# Altium schematic symbol library ic-power-module.SchLib: 8 symbols
Pins are listed as number, name and electrical type; pins without a type are passive.

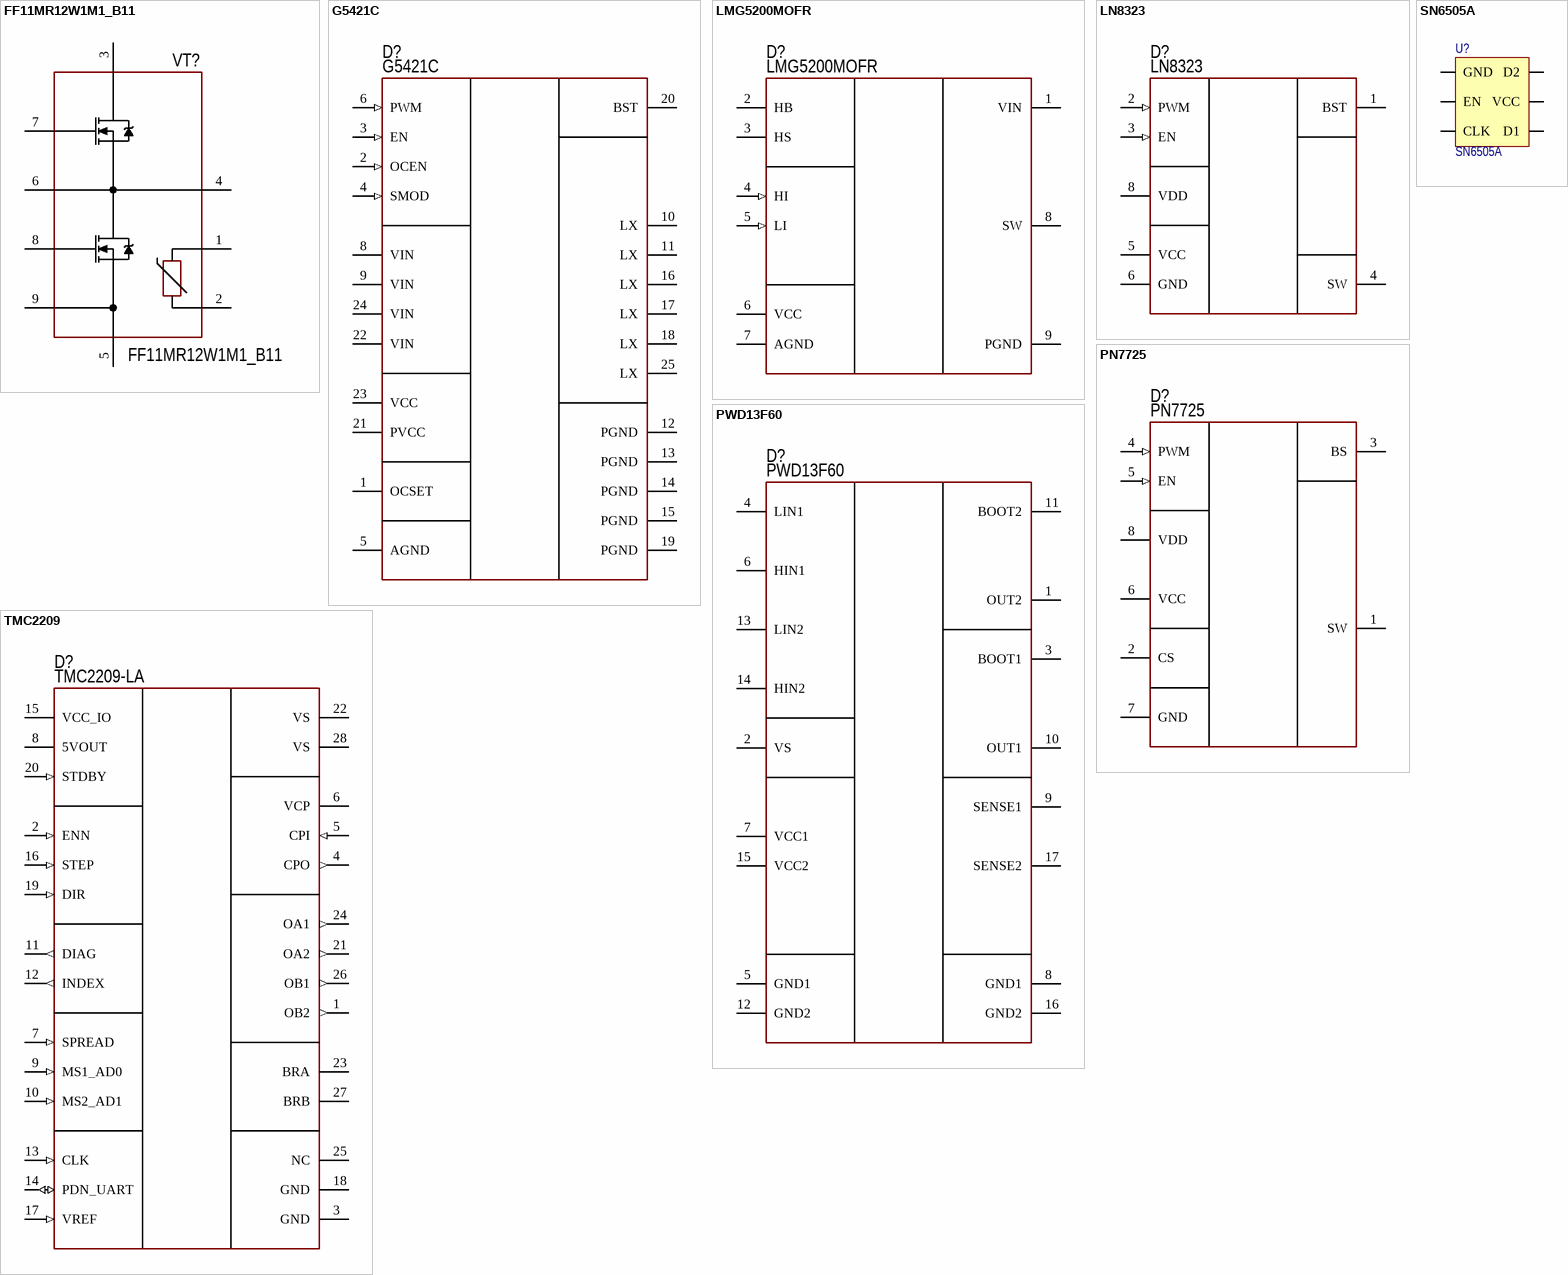
[diagram p0: symbols FF11MR12W1M1_B11 to TMC2209]

## FF11MR12W1M1_B11
designator VT?  PartNumber: FF11MR12W1M1_B11
Manufacturer: Infineon Technologies; ValueManufacturerPartNumber: Dual SiC module, 1200V, 100A, 238nC, 682W, 11 mOhms, Easy B1, -55...+125°C; TypeTransistor: Dual SiC module; VoltageDS: 1200V; CurrentDS: 100A; RDS: 11 mOhms; GateCharge: 238nC; MaxPower: 682W; Package: Easy B1; HelpURL: https://ru.mouser.com/ProductDetail/Infineon-Technologies/FF11MR12W1M1B11BOMA1?qs=sGAEpiMZZMve4%2FbfQkoj%252BMs%252BHhAJ5BiNWWSXLBNhDy8%3D; Temperature: -55...+125°C
footprint MOD: FF11MR12W1M1_B11
pins: 1 G, 1 G, 1, 2 D, 2 D, 2, 3 S, 3 S, 3, 4, 5, 6, 7, 8, 9

## G5421C
designator D?  PartNumber: G5421C
Mosfet module; Manufacturer: GMT; ValueManufacturerPartNumber: Half-bridge module, 30V, 1MHz, 6A, supply 4.5...5.5V, -40...+125°C, QFN-4x4; VoltageSupply: supply 4.5...5.5V; Frequency: 1MHz; CurrentOutput: 6A; VoltageWork: 30V; HelpURL: https://lcsc.com/product-detail/PMIC-Current-Power-Monitors-Regulators_GMT-Global-Mixed-mode-Tech-G5421CQT1U_C528085.html; Package: QFN-4x4; ComponentType: Half-bridge module; Temperature: -40...+125°C
footprint IC: G5421C
pins: 1 OCSET, 2 OCEN (in), 3 EN (in), 4 SMOD (in), 5 AGND, 6 PWM (in), 8 VIN, 9 VIN, 10 LX, 11 LX, 12 PGND, 13 PGND, 14 PGND, 15 PGND, 16 LX, 17 LX, 18 LX, 19 PGND, 20 BST, 21 PVCC, 22 VIN, 23 VCC, 24 VIN, 25 LX

## LMG5200MOFR
designator D?  PartNumber: LMG5200MOFR
Module GaN; Manufacturer: Texas Instruments; ValueManufacturerPartNumber: GaN power module, 80V, 4MHz, 10A, supply 4.75...5.25V, -40...+125°C, 9-QFN; VoltageSupply: supply 4.75...5.25V; Frequency: 4MHz; CurrentOutput: 10A; VoltageWork: 80V; HelpURL: https://www.digikey.com/product-detail/en/texas-instruments/LMG5200MOFR/296-46617-1-ND/7203901; Package: 9-QFN; ComponentType: GaN power module; Temperature: -40...+125°C
footprint IC: LMG5200
pins: 1 VIN, 2 HB, 3 HS, 4 HI (in), 5 LI (in), 6 VCC, 7 AGND, 8 SW, 9 PGND

## LN8323
designator D?  PartNumber: LN8323
Gate driver; Manufacturer: Chipown; ValueManufacturerPartNumber: Half-bridge module, 2N channel, 100kHz, 6A, supply 4...30V, -40...+125°C, 8-SOIC-PAD; VoltageSupply: supply 4...30V; Frequency: 100kHz; CurrentOutput: 6A; VoltageWork: 2N channel; HelpURL: http://chipown.com/product.asp?id=416; Package: 8-SOIC-PAD; ComponentType: Half-bridge module; Temperature: -40...+125°C
footprint 8-SOIC-PAD (pitch 1.27 mm, power pad)
pins: 1 BST, 2 PWM (in), 3 EN (in), 4 SW, 5 VCC, 6 GND, 8 VDD

## PN7725
designator D?  PartNumber: PN7725
Gate driver; Manufacturer: Chipown; ValueManufacturerPartNumber: Half-bridge module, 2N channel, 200kHz, 15W, supply 4...20V, -40...+125°C, 8-SOIC-PAD; VoltageSupply: supply 4...20V; Frequency: 200kHz; CurrentOutput: 15W; VoltageWork: 2N channel; HelpURL: http://chipown.com/product.asp?id=416; Package: 8-SOIC-PAD; ComponentType: Half-bridge module; Temperature: -40...+125°C
footprint 8-SOIC-PAD (pitch 1.27 mm, power pad)
pins: 1 SW, 2 CS, 3 BS, 4 PWM (in), 5 EN (in), 6 VCC, 7 GND, 8 VDD

## PWD13F60
designator D?  PartNumber: PWD13F60
Module MOSFET; Manufacturer: STMicroelectronics; ValueManufacturerPartNumber: MOSFET power module, 600V, 1MHz, 8A, supply 6.5...15V, -40...+125°C, 28-PowerVQFN; VoltageSupply: supply 6.5...15V; Frequency: 1MHz; CurrentOutput: 8A; VoltageWork: 600V; HelpURL: https://www.digikey.com/product-detail/en/stmicroelectronics/PWD13F60/497-18514-ND/8257611; Package: 28-PowerVQFN; ComponentType: MOSFET power module; Temperature: -40...+125°C
footprint IC: PWD13F60
pins: 1 OUT2 (power), 2 VS (power), 3 BOOT1 (power), 4 LIN1 (power), 5 GND1 (power), 6 HIN1 (power), 7 VCC1 (power), 8 GND1 (power), 9 SENSE1 (power), 10 OUT1 (power), 11 BOOT2 (power), 12 GND2 (power), 13 LIN2 (power), 14 HIN2 (power), 15 VCC2 (power), 16 GND2 (power), 17 SENSE2 (power)

## SN6505A
designator U?
Low-Noise 1-A Transformer Drivers for Isolated Power Supplies; ComponentLink1Description: Datasheet; ComponentLink1URL: https://www.ti.com/lit/ds/symlink/sn6505a.pdf?ts=1606984863638&ref_url=https%253A%252F%252Fwww.google.com%252F
footprint SOT23-6 (pitch 0.95 mm)
pins: 1 D1, 2 VCC, 3 D2, 4 GND, 5 EN, 6 CLK

## TMC2209
designator D?  PartNumber: TMC2209-LA
Stepper motor driver; Manufacturer: TRINAMIC; VoltageSupply: supply -0.5..5.5V; CurrentOutput: 2.8A; Voltage Range: 4.75… 29V DC; HelpURL: https://www.trinamic.com/products/integrated-circuits/details/tmc2209-la/; Package: 28-QFN; ComponentType: Stepper motor driver; ValueManufacturerPartNumber: =ComponentType+', '+VoltageWork+', '+Frequency+', '+CurrentOutput+', '+CMTI+', '+VoltageSupply+', '+Temperature+', '+Package; Temperature: -50...+150°C
footprint 28-QFN (5x5) (5x5 mm, pitch 0.5 mm, power pad)
pins: 1 OB2 (out), 2 ENN (in), 3 GND, 4 CPO (out), 5 CPI (in), 6 VCP, 7 SPREAD (in), 8 5VOUT (power), 9 MS1_AD0 (in), 10 MS2_AD1 (in), 11 DIAG (out), 12 INDEX (out), 13 CLK (in), 14 PDN_UART (io), 15 VCC_IO (power), 16 STEP (in), 17 VREF (in), 18 GND, 19 DIR (in), 20 STDBY (in), 21 OA2 (out), 22 VS (power), 23 BRA, 24 OA1 (out), 25 NC, 26 OB1 (out), 27 BRB, 28 VS (power)